# Altium schematic symbol library MF_Discrete_Semiconductor.SCHLIB: 7 symbols
Pins are listed as number, name and electrical type; pins without a type are passive.

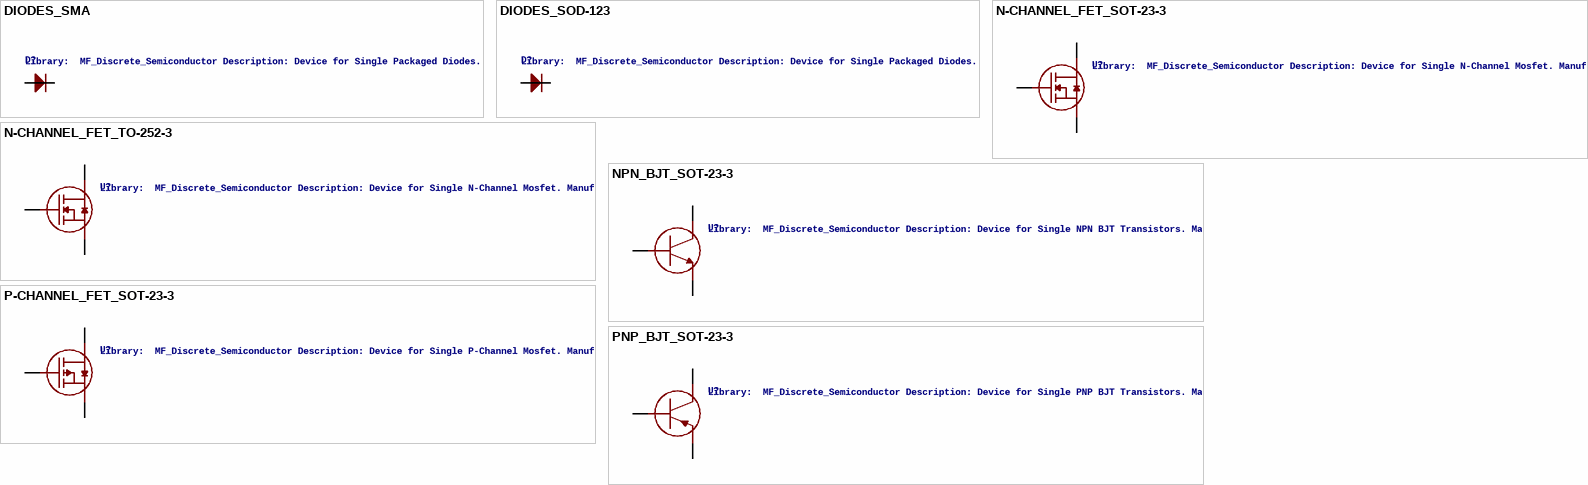
[diagram p0: symbols DIODES_SMA to PNP_BJT_SOT-23-3]

## DIODES_SMA
designator D?, comment Library:  MF_Discrete_Semiconductor Description: Device for Single Packaged Diodes.
HOUSEPART: NO; HOUSEPART: YES; MPN: MF-DIO-SMA-B140; GateName_1: G$1; SymbolName_1: DIODE; DeviceName: _SMA; DeviceSetName: DIODES; POPULATE: 1; LibraryName: MF_Discrete_Semiconductor; URL: https://factory.macrofab.com/part/MF-DIO-SMA-B140
footprint SMA
pins: ANODE, CATHODE

## DIODES_SOD-123
designator D?, comment Library:  MF_Discrete_Semiconductor Description: Device for Single Packaged Diodes.
HOUSEPART: NO; HOUSEPART: YES; MPN: MF-DIO-SOD123-1N4148; MPN: MF-DIO-SOD123-BAT42; GateName_1: G$1; SymbolName_1: DIODE; DeviceName: _SOD-123; DeviceSetName: DIODES; POPULATE: 1; LibraryName: MF_Discrete_Semiconductor; URL: https://factory.macrofab.com/part/MF-DIO-SOD123-1N4148; URL: https://factory.macrofab.com/part/MF-DIO-SOD123-BAT42
footprint SOD-123
pins: ANODE, CATHODE

## N-CHANNEL_FET_SOT-23-3
designator U?, comment Library:  MF_Discrete_Semiconductor Description: Device for Single N-Channel Mosfet. Manufacture part number (MFG#) can be added via Attributes.
HOUSEPART: NO; HOUSEPART: YES; MPN: MF-DSC-SOT233-BSS138; GateName_1: G$1; SymbolName_1: N-CHANNEL_FET; DeviceName: _SOT-23-3; POPULATE: 1; LibraryName: MF_Discrete_Semiconductor; DeviceSetName: N-CHANNEL_FET; URL: https://factory.macrofab.com/part/MF-DSC-SOT233-BSS138
footprint SOT-23-3
pins: P$1 GATE, P$2 SOURCE, P$3 DRAIN

## N-CHANNEL_FET_TO-252-3
designator U?, comment Library:  MF_Discrete_Semiconductor Description: Device for Single N-Channel Mosfet. Manufacture part number (MFG#) can be added via Attributes.
HOUSEPART: NO; GateName_1: G$1; SymbolName_1: N-CHANNEL_FET; DeviceName: _TO-252-3; POPULATE: 1; LibraryName: MF_Discrete_Semiconductor; DeviceSetName: N-CHANNEL_FET
footprint TO-252-3
pins: 1 GATE, 2 SOURCE, PAD DRAIN

## NPN_BJT_SOT-23-3
designator U?, comment Library:  MF_Discrete_Semiconductor Description: Device for Single NPN BJT Transistors. Manufacture part number (MFG#) can be added via Attributes.
HOUSEPART: NO; HOUSEPART: YES; MPN: MF-DSC-SOT233-MMBT3904; GateName_1: G$1; SymbolName_1: NPN_BJT; DeviceName: _SOT-23-3; POPULATE: 1; LibraryName: MF_Discrete_Semiconductor; DeviceSetName: NPN_BJT; URL: https://factory.macrofab.com/part/MF-DSC-SOT233-MMBT3904
footprint SOT-23-3
pins: P$1 BASE, P$2 EMITTER, P$3 COLLECTOR

## P-CHANNEL_FET_SOT-23-3
designator U?, comment Library:  MF_Discrete_Semiconductor Description: Device for Single P-Channel Mosfet. Manufacture part number (MFG#) can be added via Attributes.
HOUSEPART: NO; HOUSEPART: YES; MPN: MF-DSC-SOT233-BSS84; GateName_1: G$1; SymbolName_1: P-CHANNEL_FET; DeviceName: _SOT-23-3; POPULATE: 1; LibraryName: MF_Discrete_Semiconductor; DeviceSetName: P-CHANNEL_FET; URL: https://factory.macrofab.com/part/MF-DSC-SOT233-BSS84
footprint SOT-23-3
pins: P$1 GATE, P$2 SOURCE, P$3 DRAIN

## PNP_BJT_SOT-23-3
designator U?, comment Library:  MF_Discrete_Semiconductor Description: Device for Single PNP BJT Transistors. Manufacture part number (MFG#) can be added via Attributes.
HOUSEPART: NO; HOUSEPART: YES; MPN: MF-DSC-SOT233-MMBT3906; GateName_1: G$1; SymbolName_1: PNP_BJT; DeviceName: _SOT-23-3; POPULATE: 1; LibraryName: MF_Discrete_Semiconductor; DeviceSetName: PNP_BJT; URL: https://factory.macrofab.com/part/MF-DSC-SOT233-MMBT3906
footprint SOT-23-3
pins: P$1 BASE, P$2 EMITTER, P$3 COLLECTOR